# EAGLE library part 16X2 (library FansElectronics-LCD)
LCD 16x2 Liquid Crystal Display 16 Digit dan 2 baris
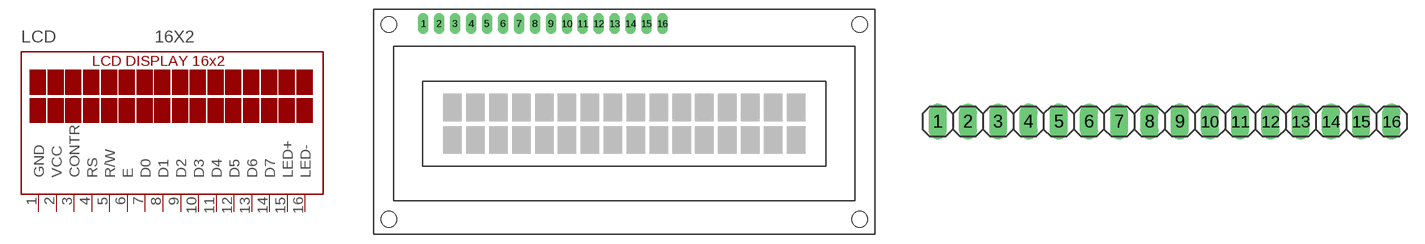
[diagram p0: symbol with the pads of 16X2-HOLES; footprints 16X2-HOLES, 16X2-PIN]

Designator prefix LCD

## 16X2LCD  [16X2-HOLES]
1  GND  pwr
2  VCC  pwr
3  CONTR  in
4  RS  in
5  R/W  in
6  E  in
7  D0  in
8  D1  in
9  D2  in
10  D3  in
11  D4  in
12  D5  in
13  D6  in
14  D7  in
15  LED+  nc
16  LED-  nc

## 16X2PAD  [16X2-PIN]
Pads as for 16X2-HOLES

## 16X2  [16X2]
Pads as for 16X2-HOLES

## 16X2-O  [16X2-PIN-O]
Pads as for 16X2-HOLES

## Footprint 16X2-HOLES (pad centres in mm)
drill 1 pad 1.676 long: 1 -32.01,15.625; 2 -29.47,15.625; 3 -26.93,15.625; 4 -24.39,15.625; 5 -21.85,15.625; 6 -19.31,15.625; 7 -16.77,15.625; 8 -14.23,15.625; 9 -11.69,15.625; 10 -9.15,15.625; 11 -6.61,15.625; 12 -4.07,15.625; 13 -1.53,15.625; 14 1.01,15.625; 15 3.55,15.625; 16 6.09,15.625
hole 2.5 at -37.5,-15.5
hole 2.5 at 37.5,-15.5
hole 2.5 at -37.5,15.5
hole 2.5 at 37.5,15.5

## Footprint 16X2-PIN (pad centres in mm)
drill 1.016 long: 1 -19.05,0; 2 -16.51,0; 3 -13.97,0; 4 -11.43,0; 5 -8.89,0; 6 -6.35,0; 7 -3.81,0; 8 -1.27,0; 9 1.27,0; 10 3.81,0; 11 6.35,0; 12 8.89,0; 13 11.43,0; 14 13.97,0; 15 16.51,0; 16 19.05,0

## Footprint 16X2 (pad centres in mm)
drill 1 pad 1.676 long: 1 -32.01,15.625; 2 -29.47,15.625; 3 -26.93,15.625; 4 -24.39,15.625; 5 -21.85,15.625; 6 -19.31,15.625; 7 -16.77,15.625; 8 -14.23,15.625; 9 -11.69,15.625; 10 -9.15,15.625; 11 -6.61,15.625; 12 -4.07,15.625; 13 -1.53,15.625; 14 1.01,15.625; 15 3.55,15.625; 16 6.09,15.625

## Footprint 16X2-PIN-O (pad centres in mm)
drill 1.016 octagon: 1 -19.05,0; 2 -16.51,0; 3 -13.97,0; 4 -11.43,0; 5 -8.89,0; 6 -6.35,0; 7 -3.81,0; 8 -1.27,0; 9 1.27,0; 10 3.81,0; 11 6.35,0; 12 8.89,0; 13 11.43,0; 14 13.97,0; 15 16.51,0; 16 19.05,0